# EAGLE library part LPC1112FDH28 (library nxp_60)
LPC1112 50 MHz 32-bit ARM Cortex-M0 based microcontroller featuring a high level of integration and very low power consumption. On-chip flash program memory The LPC1110/11/12/13/14 contain 32 kB (LPC1114), 24 kB (LPC1113), 16 kB (LPC1112), 8 kB (LPC1111),or 4 kB (LPC1110) of on-chip flash memory. On-chip SRAM The LPC1110/11/12/13/14 contain a total of 8 kB, 4 kB, 2 kB, or 1 kB on-chip static RAM memory. MK - Datasheet available on www.nxp.com
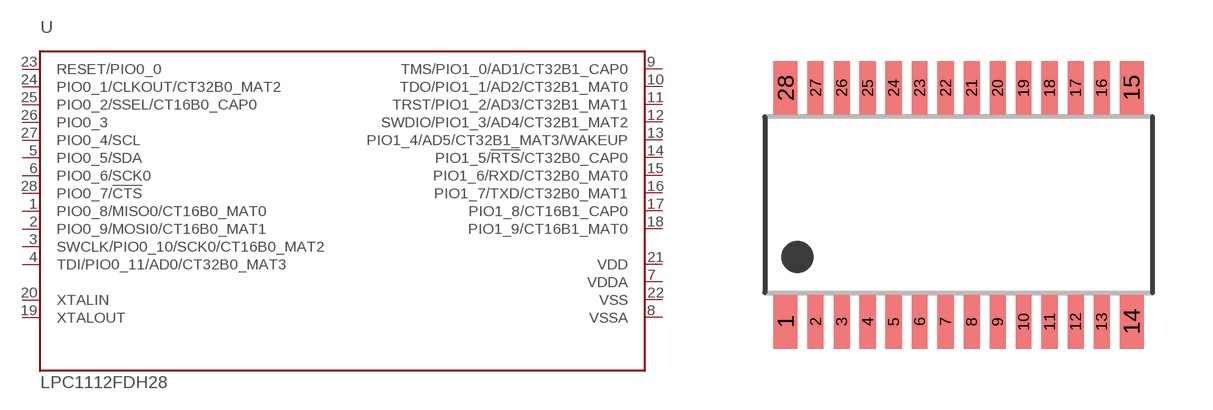
[diagram p57: symbol with the pads of SOT361-1; footprint SOT361-1]

Designator prefix -

## LPC1112FDH28  [SOT361-1]
1  PIO0_8/MISO0/CT16B0_MAT0
2  PIO0_9/MOSI0/CT16B0_MAT1
3  SWCLK/PIO0_10/SCK0/CT16B0_MAT2
4  TDI/PIO0_11/AD0/CT32B0_MAT3
5  PIO0_5/SDA
6  PIO0_6/SCK0
7  VDDA  pwr
8  VSSA  pwr
9  TMS/PIO1_0/AD1/CT32B1_CAP0
10  TDO/PIO1_1/AD2/CT32B1_MAT0
11  TRST/PIO1_2/AD3/CT32B1_MAT1
12  SWDIO/PIO1_3/AD4/CT32B1_MAT2
13  PIO1_4/AD5/CT32B1_MAT3/WAKEUP
14  PIO1_5/!RTS!/CT32B0_CAP0
15  PIO1_6/RXD/CT32B0_MAT0
16  PIO1_7/TXD/CT32B0_MAT1
17  PIO1_8/CT16B1_CAP0
18  PIO1_9/CT16B1_MAT0
19  XTALOUT  out
20  XTALIN  in
21  VDD  pwr
22  VSS  pwr
23  RESET/PIO0_0
24  PIO0_1/CLKOUT/CT32B0_MAT2
25  PIO0_2/SSEL/CT16B0_CAP0
26  PIO0_3
27  PIO0_4/SCL
28  PIO0_7/!CTS!

## Footprint SOT361-1 (pad centres in mm)
SOT361-1 TSSOP28: plastic thin shrink small outline package; 28 leads; body width 4.4 mm JEDEC: MO-153 IEC: ---
smd 0.6 x 1.35: 1 -4.325,-2.925; 14 4.325,-2.925; 15 4.325,2.925; 28 -4.325,2.925
smd 0.4 x 1.35: 2 -3.575,-2.925; 3 -2.925,-2.925; 4 -2.275,-2.925; 5 -1.625,-2.925; 6 -0.975,-2.925; 7 -0.325,-2.925; 8 0.325,-2.925; 9 0.975,-2.925; 10 1.625,-2.925; 11 2.275,-2.925; 12 2.925,-2.925; 13 3.575,-2.925; 16 3.575,2.925; 17 2.925,2.925; 18 2.275,2.925; 19 1.625,2.925; 20 0.975,2.925; 21 0.325,2.925; 22 -0.325,2.925; 23 -0.975,2.925; 24 -1.625,2.925; 25 -2.275,2.925; 26 -2.925,2.925; 27 -3.575,2.925